# EAGLE library part MCQ4406A-TP (library MCQ4406A-TP)
Power MOSFETS Source: Datasheet <https://www.mccsemi.com/pdf/Products/MCQ4406A(SOP-8).pdf>
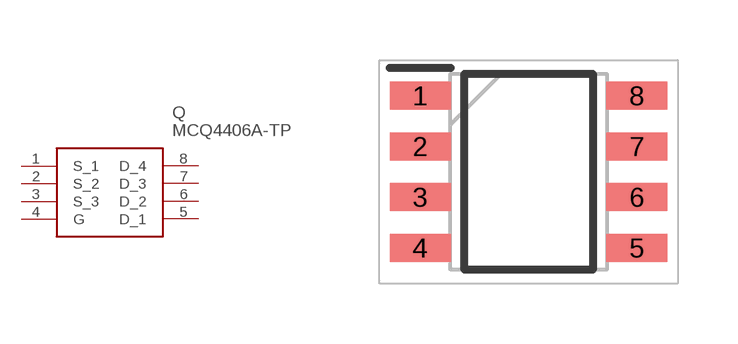
[diagram p0: symbol with the pads of SOIC127P600X175-8N; footprint SOIC127P600X175-8N]

Designator prefix Q

## MCQ4406A-TP (Description: Power MOSFETS; Height: 1.75mm; Manufacturer_Name: MCC; Manufacturer_Part_Number: MCQ4406A-TP; Mouser_Part_Number: 833-MCQ4406A-TP; Mouser_Price-Stock: https://www.mouser.co.uk/ProductDetail/Micro-Commercial-Components-MCC/MCQ4406A-TP?qs=vmHwEFxEFR%252B02FVyr5VysA%3D%3D)  [SOIC127P600X175-8N]
1  S_1
2  S_2
3  S_3
4  G
5  D_1
6  D_2
7  D_3
8  D_4

## Footprint SOIC127P600X175-8N (pad centres in mm)
BAV19WSHE3-TP
smd 1.525 x 0.7: 1 -2.712,1.905; 2 -2.712,0.635; 3 -2.712,-0.635; 4 -2.712,-1.905; 5 2.712,-1.905; 6 2.712,-0.635; 7 2.712,0.635; 8 2.712,1.905